# EAGLE library part MHPS2273N (library Button)
MHPS2273N Momentary Double Pole Double Throw Button 100mA @30V DC
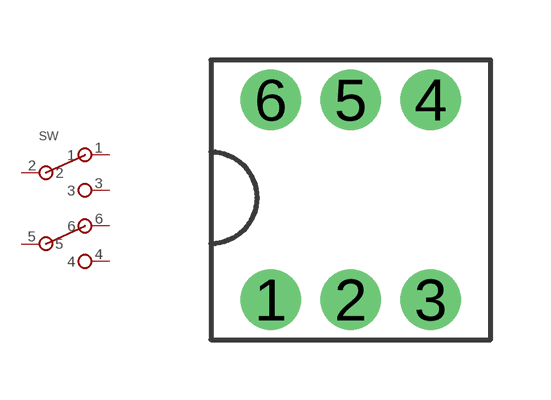
[diagram p0: symbol with the pads of MHPS2273N; footprint MHPS2273N]

Designator prefix SW

## MHPS2273N  [MHPS2273N]
1  1  in
2  2  out
3  3  in
4  4  in
5  5  out
6  6  in

## Footprint MHPS2273N (pad centres in mm)
MHPS2273N Momentary Double Pole Double Throw Button
drill 1: 1 -2,-2.5; 2 0,-2.5; 3 2,-2.5; 4 2,2.5; 5 0,2.5; 6 -2,2.5